# Altium footprint library BK-917.PcbLib: 1 footprints
Each footprint in its own frame and in the unit in brackets; x right, y up, seen from the top. Pads: shape width x height; smd on the part's side, far side on the other; paste and mask are expansions set on the pad; w line width, h text height; cw(c..) or ccw(c..) is an arc to the next point about the centre after c.
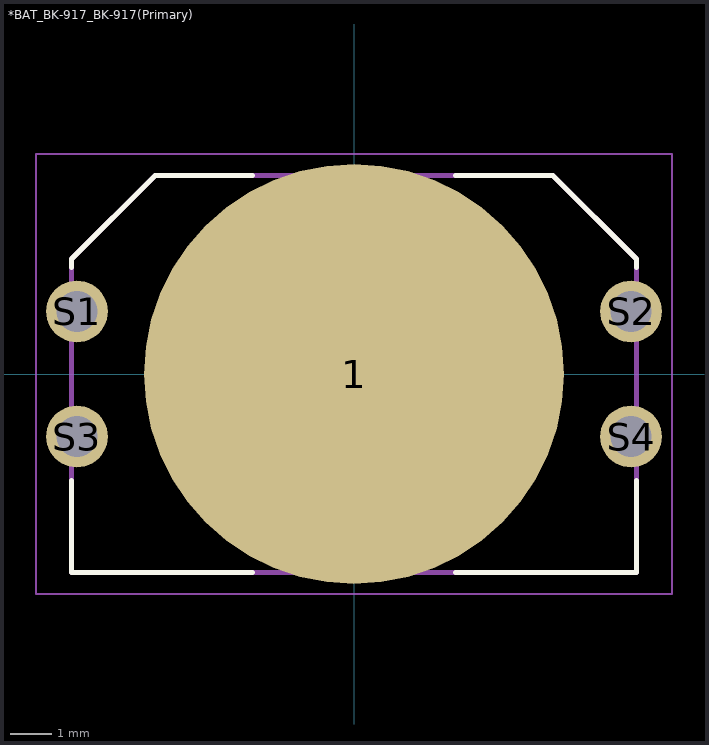
[diagram p0: the footprint, top view; thin cyan lines are the x and y axes]

## *BAT_BK-917_BK-917(Primary) [mm]
pads (5):
  round 10.2 smd: 1(0,0)
  round 1.5 hole 1: S1(-6.73,1.52) S2(6.73,1.52) S3(-6.73,-1.52) S4(6.73,-1.52)
Top Overlay:
  lines w0.127: -6.86,-2.59 -6.86,-4.825 -2.47,-4.825 ; -6.86,2.59 -6.86,2.795 -4.83,4.825 -2.47,4.825 ; 2.47,-4.825 6.86,-4.825 6.86,-2.59 ; 2.47,4.825 4.83,4.825 6.86,2.795 6.86,2.59
Mechanical 4:
  lines w0.127: -6.86,-4.825 -6.86,2.795 ; -6.86,-4.825 6.86,-4.825 ; -6.86,-4.825 -6.86,2.795 ; -6.86,-4.825 6.86,-4.825 ; -6.86,2.795 -4.83,4.825 ; -6.86,2.795 -4.83,4.825 ; -4.83,4.825 4.83,4.825 ; -4.83,4.825 4.83,4.825 ; 4.83,4.825 6.86,2.795 ; 4.83,4.825 6.86,2.795 ; 6.86,-4.825 6.86,2.795 ; 6.86,-4.825 6.86,2.795
Courtyard Bottom:
  lines w0.05: -7.73,-5.35 7.73,-5.35 7.73,5.35 -7.73,5.35 -7.73,-5.35
3D body: height 3.55, standoff -3.56, extent -6.862,-4.825 6.858,4.825